# Altium integrated library Elantec Interface PIN Driver.IntLib: 3 symbols
Pins are listed as number, name and electrical type; pins without a type are passive.

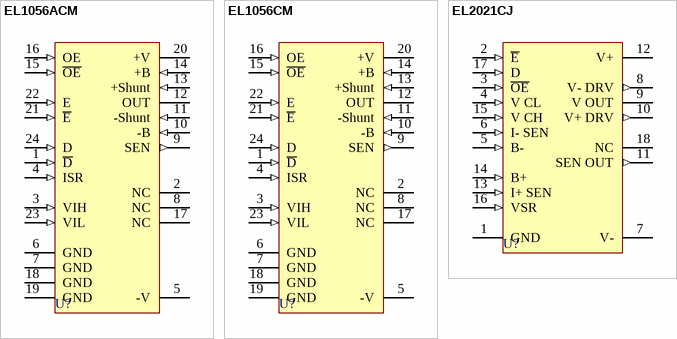
[diagram p0: symbols EL1056ACM to EL2021CJ]

## EL1056ACM
designator U?
Monolithic High-Speed Pin Driver; Note: Pins 2,8,17 are No Connection; Published: 8-Jun-2000; LatestRevisionDate: 13-Apr-2006; LatestRevisionNote: IPC-7351 Footprint Added.; DatasheetVersion: Mar-1993; PackageReference: SOL-24; Publisher: Altium Limited; PackageDescription: 24-Pin Small Outline Integrated Circuit 1.27 mm Pitch; ComponentLink1Description: Manufacturer Link; ComponentLink1URL: http://www.intersil.com/cda/home/; ComponentLink2Description: Intersil Login; ComponentLink2URL: http://www.intersil.com/documentation/index.asp
footprint SOL-24_N (SOIC, 24-Leads, Body 15.4x7.5mm, Pitch 1.27mm, IPC Medium Density)
footprint SOL-24_L (SOIC, 24-Leads, Body 15.4x7.5mm, Pitch 1.27mm, IPC High Density)
footprint SOL-24_M (SOIC, 24-Leads, Body 15.4x7.5mm, Pitch 1.27mm, IPC Low Density)
3D model SOL-24 (24-Pin Small Outline Integrated Circuit 1.27 mm Pitch)
pins: 1 ~{D} (in), 2 NC, 3 VIH (in), 4 ISR (in), 5 -V (power), 6 GND (power), 7 GND (power), 8 NC, 9 SEN (out), 10 -B (in), 11 -Shunt (in), 12 OUT (hiz), 13 +Shunt (in), 14 +B (in), 15 ~{OE} (in), 16 OE (in), 17 NC, 18 GND (power), 19 GND (power), 20 +V (power), 21 ~{E} (in), 22 E (in), 23 VIL (in), 24 D (in)

## EL1056CM
designator U?
Monolithic High-Speed Pin Driver; Note: Pins 2,8,17 are No Connection; Published: 8-Jun-2000; LatestRevisionDate: 13-Apr-2006; LatestRevisionNote: IPC-7351 Footprint Added.; DatasheetVersion: Mar-1993; PackageReference: SOL-24; Publisher: Altium Limited; PackageDescription: 24-Pin Small Outline Integrated Circuit 1.27 mm Pitch; ComponentLink1Description: Manufacturer Link; ComponentLink1URL: http://www.intersil.com/cda/home/; ComponentLink2Description: Intersil Login; ComponentLink2URL: http://www.intersil.com/documentation/index.asp
footprint SOL-24_N (SOIC, 24-Leads, Body 15.4x7.5mm, Pitch 1.27mm, IPC Medium Density)
footprint SOL-24_L (SOIC, 24-Leads, Body 15.4x7.5mm, Pitch 1.27mm, IPC High Density)
footprint SOL-24_M (SOIC, 24-Leads, Body 15.4x7.5mm, Pitch 1.27mm, IPC Low Density)
3D model SOL-24 (24-Pin Small Outline Integrated Circuit 1.27 mm Pitch)
pins: 1 ~{D} (in), 2 NC, 3 VIH (in), 4 ISR (in), 5 -V (power), 6 GND (power), 7 GND (power), 8 NC, 9 SEN (out), 10 -B (in), 11 -Shunt (in), 12 OUT (hiz), 13 +Shunt (in), 14 +B (in), 15 ~{OE} (in), 16 OE (in), 17 NC, 18 GND (power), 19 GND (power), 20 +V (power), 21 ~{E} (in), 22 E (in), 23 VIL (in), 24 D (in)

## EL2021CJ
designator U?
Monolithic Pin Driver; Note: Pin 18 is No Connection; Published: 8-Jun-2000; LatestRevisionDate: 04-Mar-2005; LatestRevisionNote: Stylized 3D Model Added.; DatasheetVersion: Nov-1993; PackageReference: MDP0031-18; Publisher: Altium Limited; PackageDescription: DIP; 18 Leads; Row Spacing 7.62 mm; Pitch 2.54 mm; Code_JEDEC: MS-001-BC; ComponentLink1Description: Manufacturer Link; ComponentLink1URL: http://www.intersil.com/cda/home/
footprint MDP0031-18 (DIP; 18 Leads; Row Spacing 7.62 mm; Pitch 2.54 mm)
3D model MDP0031-18 (DIP; 18 Leads; Row Spacing 7.62 mm; Pitch 2.54 mm)
pins: 1 GND (power), 2 ~{E} (in), 3 ~{OE} (in), 4 V CL (in), 5 B- (in), 6 I- SEN (in), 7 V- (power), 8 V- DRV (out), 9 V OUT (hiz), 10 V+ DRV (out), 11 SEN OUT (out), 12 V+ (power), 13 I+ SEN (in), 14 B+ (in), 15 V CH (in), 16 VSR (in), 17 D (in), 18 NC